# EAGLE library part WE-SL_4WINDING (library wuerth-elektronik)
SMD Common-Mode Choke for signal line WE-SL For distortion-free removal of noise from transmitted electrical signals -- Current compensated choke for data and signal lines -- USB/CAN/ISDN-Bus -- Power supply systems -- Control lines -- LAN, PBX, cable TV, CD-ROM, 8mm video, etc.
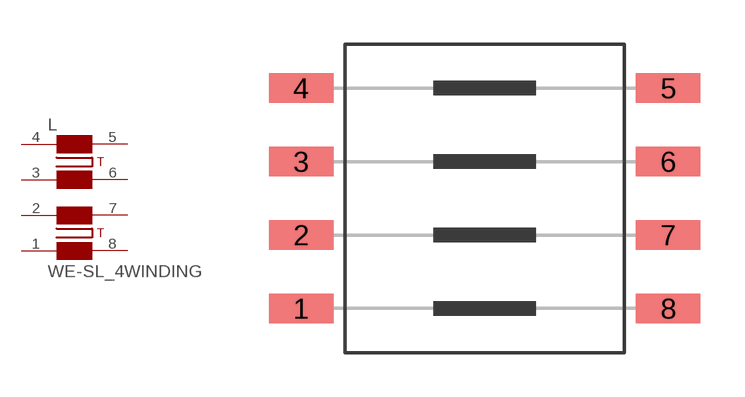
[diagram p3: symbol with the pads of WE-SL_4WINDING; footprint WE-SL_4WINDING]

Designator prefix L

## WE-SL_4WINDING  [WE-SL_4WINDING]
1  7  pas
2  5  pas
3  3  pas
4  1  pas
5  2  pas
6  4  pas
7  6  pas
8  8  pas

## Footprint WE-SL_4WINDING (pad centres in mm)
SMD Common-Mode Choke
smd 2.2 x 1: 1 -6.25,-3.75; 2 -6.25,-1.25; 3 -6.25,1.25; 4 -6.25,3.75; 5 6.25,3.75; 6 6.25,1.25; 7 6.25,-1.25; 8 6.25,-3.75